# Altium schematic symbol library Modules.SCHLIB: 6 symbols
Pins are listed as number, name and electrical type; pins without a type are passive.

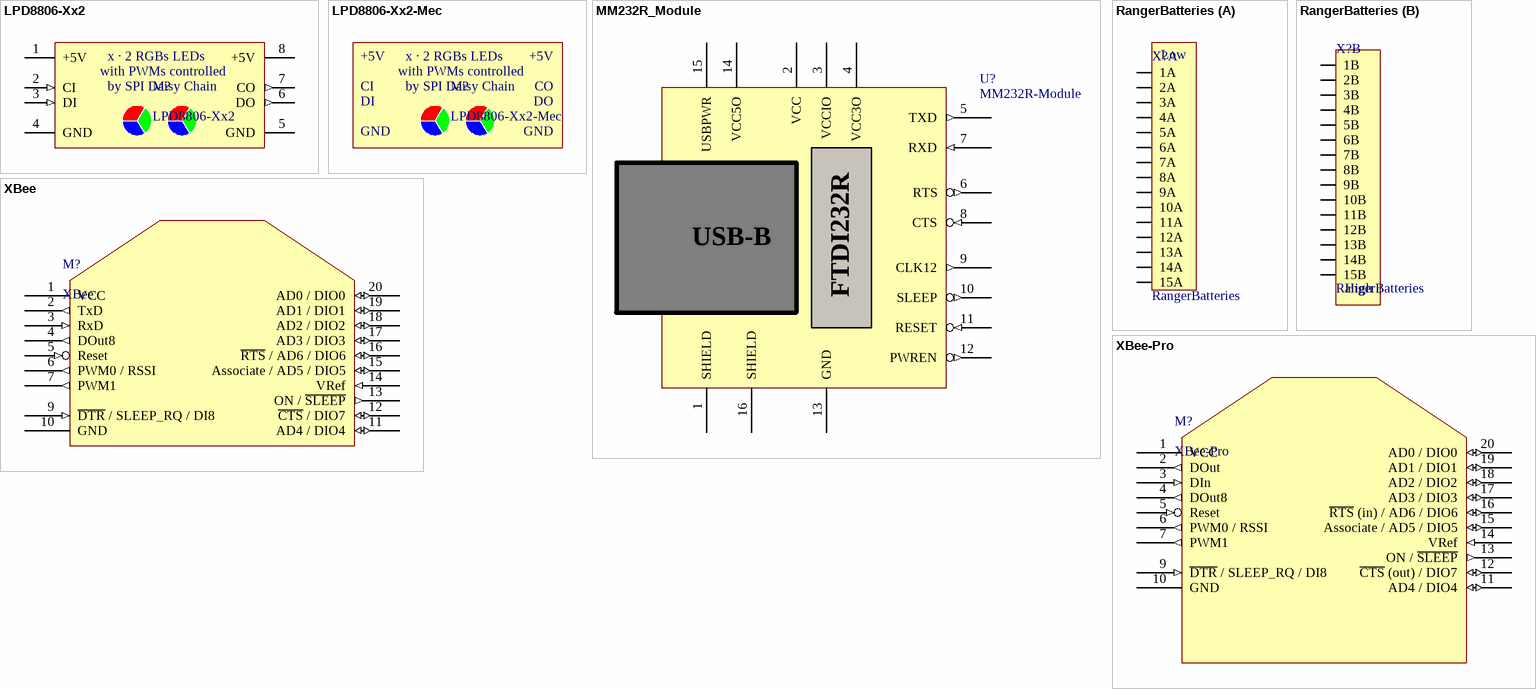
[diagram p0: symbols LPD8806-Xx2 to XBee-Pro]

## LPD8806-Xx2
designator M?
Digital Addressable RGB LED w/ PWM waterproof flexi strip - X modules of 2 LEDs
footprint LPD8806-4x2 (Digital Addressable RGB LED w/ PWM waterproof flexi strip - 4 modules of 2 LEDs)
pins: 1 +5V (power) "Power supply", 2 CI (in) "SPI Clock Input", 3 DI (in) "SPI Data Input", 4 GND (power) "Power supply", 5 GND (power) "Power supply", 6 DO (out) "SPI Data Output", 7 CO (out) "SPI Clock Output", 8 +5V (power) "Power supply"
text: x · 2 RGBs LEDs; with PWMs controlled; by SPI Daisy Chain

## LPD8806-Xx2-Mec
designator M?
Mechanical part for Digital Addressable RGB LED w/ PWM waterproof flexi strip - X modules of 2 LEDs
footprint LPD8806-4x2 (Digital Addressable RGB LED w/ PWM waterproof flexi strip - 4 modules of 2 LEDs)
text: +5V; x · 2 RGBs LEDs; with PWMs controlled; CI; by SPI Daisy Chain; CO; DI; DO; GND

## MM232R_Module
designator U?, comment MM232R-Module
MM232R Mini USB- Serial UART Development Module
pins: 1 SHIELD, 2 VCC (power), 3 VCCIO (power), 4 VCC3O (power), 5 TXD (out), 6 RTS (out), 7 RXD (in), 8 CTS (in), 9 CLK12 (out), 10 SLEEP (out), 11 RESET (in), 12 PWREN (out), 13 GND (power), 14 VCC5O (power), 15 USBPWR (power), 16 SHIELD
text: USB-B; FTDI232R

## RangerBatteries
designator X?
2 x 15 pins SEI Samtec connectors and Batteries support
footprint MOBOTS_Ranger_Batteries (Connector Samtec, SEI serie, One-Piece Board Stacking Connector, 1mm pitch)
part A pins: 1A, 2A, 3A, 4A, 5A, 6A, 7A, 8A, 9A, 10A, 11A, 12A, 13A, 14A, 15A
part B pins: 1B, 2B, 3B, 4B, 5B, 6B, 7B, 8B, 9B, 10B, 11B, 12B, 13B, 14B, 15B
part A text: Low
part B text: High

## XBee
designator M?
XBee RF Module
pins: 1 VCC (power) "Power supply", 2 TxD (out) "UART Data Out", 3 RxD (in) "UART Data In", 4 DOut8 (out) "Digital Output 8", 5 Reset (in) "Module Reset (reset pulse must be at least 200 ns)", 6 PWM0 / RSSI (out) "PWM Output 0 / RX Signal Strength Indicator", 7 PWM1 (out) "PWM Output 1", 9 ~{DTR} / SLEEP_RQ / DI8 (in) "Pin Sleep Control Line or Digital Input 8", 10 GND (power) "Ground", 11 AD4 / DIO4 (io) "Analog Input 4 or Digital I/O 4", 12 ~{CTS} / DIO7 (io) "Clear-to-Send Flow Control or Digital I/O 7", 13 ON / ~{SLEEP} (out) "Module Status Indicator", 14 VRef (in) "Voltage Reference for A/D Inputs", 15 Associate / AD5 / DIO5 (io) "Associated Indicator, Analog Input 5 or Digital I/O 5", 16 ~{RTS} / AD6 / DIO6 (io) "Request-to-Send Flow Control, Analog Input 6 or Digital I/O 6", 17 AD3 / DIO3 (io) "Analog Input 3 or Digital I/O 3", 18 AD2 / DIO2 (io) "Analog Input 2 or Digital I/O 2", 19 AD1 / DIO1 (io) "Analog Input 1 or Digital I/O 1", 20 AD0 / DIO0 (io) "Analog Input 0 or Digital I/O 0"

## XBee-Pro
designator M?
XBee PRO RF Module
pins: 1 VCC (power) "Power supply", 2 DOut (out) "UART Data Out", 3 DIn (in) "UART Data In", 4 DOut8 (out) "Digital Output 8", 5 Reset (in) "Module Reset (reset pulse must be at least 200 ns)", 6 PWM0 / RSSI (out) "PWM Output 0 / RX Signal Strength Indicator", 7 PWM1 (out) "PWM Output 1", 9 ~{DTR} / SLEEP_RQ / DI8 (in) "Pin Sleep Control Line or Digital Input 8", 10 GND (power) "Ground", 11 AD4 / DIO4 (io) "Analog Input 4 or Digital I/O 4", 12 ~{CTS} (out) / DIO7 (io) "Clear-to-Send Flow Control or Digital I/O 7", 13 ON / ~{SLEEP} (out) "Module Status Indicator", 14 VRef (in) "Voltage Reference for A/D Inputs", 15 Associate / AD5 / DIO5 (io) "Associated Indicator, Analog Input 5 or Digital I/O 5", 16 ~{RTS} (in) / AD6 / DIO6 (io) "Request-to-Send Flow Control, Analog Input 6 or Digital I/O 6", 17 AD3 / DIO3 (io) "Analog Input 3 or Digital I/O 3", 18 AD2 / DIO2 (io) "Analog Input 2 or Digital I/O 2", 19 AD1 / DIO1 (io) "Analog Input 1 or Digital I/O 1", 20 AD0 / DIO0 (io) "Analog Input 0 or Digital I/O 0"